# Altium integrated library WE-LF_rev15a.intlib: 54 symbols
Pins are listed as number, name and electrical type; pins without a type are passive.

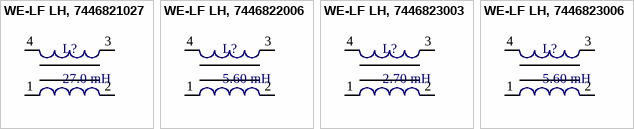
[diagram p0: symbols WE-LF LH, 7446821027 to WE-LF LH, 7446823006]

## WE-LF LH, 7446821027
designator L?, comment 27.0 mH
THT Common Mode Power Line Choke WE-LF, L=27.0 mH; partNo: 7446821027; Manufacturer: Würth Elektronik eiSos GmbH; Inductance: 27.0 mH; ComponentLink1Description: Manufacturer; ComponentLink1URL: http://www.we-online.de; Created by: Christin Zierenner; Created Date: March 2010; ComponentLink2Description: Datasheet; ComponentLink2URL: http://www.we-online.de/katalog/media/pdf/7446821027.pdf
footprint WE-LF LH (THT Inductor, 4-Leads, Body 28,5x28,5mm)
pins: 1, 2, 3, 4

## WE-LF LH, 7446822006
designator L?, comment 5.60 mH
THT Common Mode Power Line Choke WE-LF, L=5.60 mH; partNo: 7446822006; Manufacturer: Würth Elektronik eiSos GmbH; Inductance: 5.60 mH; ComponentLink1Description: Manufacturer; ComponentLink1URL: http://www.we-online.de; Created by: Christin Zierenner; Created Date: March 2010; ComponentLink2Description: Datasheet; ComponentLink2URL: http://www.we-online.de/katalog/media/pdf/7446822006.pdf
footprint WE-LF LH (THT Inductor, 4-Leads, Body 28,5x28,5mm)
pins: 1, 2, 3, 4

## WE-LF LH, 7446823003
designator L?, comment 2.70 mH
THT Common Mode Power Line Choke WE-LF, L=2.70 mH; partNo: 7446823003; Manufacturer: Würth Elektronik eiSos GmbH; Inductance: 2.70 mH; ComponentLink1Description: Manufacturer; ComponentLink1URL: http://www.we-online.de; Created by: Christin Zierenner; Created Date: March 2010; ComponentLink2Description: Datasheet; ComponentLink2URL: http://www.we-online.de/katalog/media/pdf/7446823003.pdf
footprint WE-LF LH (THT Inductor, 4-Leads, Body 28,5x28,5mm)
pins: 1, 2, 3, 4

## WE-LF LH, 7446823006
designator L?, comment 5.60 mH
THT Common Mode Power Line Choke WE-LF, L=5.60 mH; partNo: 7446823006; Manufacturer: Würth Elektronik eiSos GmbH; Inductance: 5.60 mH; ComponentLink1Description: Manufacturer; ComponentLink1URL: http://www.we-online.de; Created by: Christin Zierenner; Created Date: March 2010; ComponentLink2Description: Datasheet; ComponentLink2URL: http://www.we-online.de/katalog/media/pdf/7446823006.pdf
footprint WE-LF LH (THT Inductor, 4-Leads, Body 28,5x28,5mm)
pins: 1, 2, 3, 4


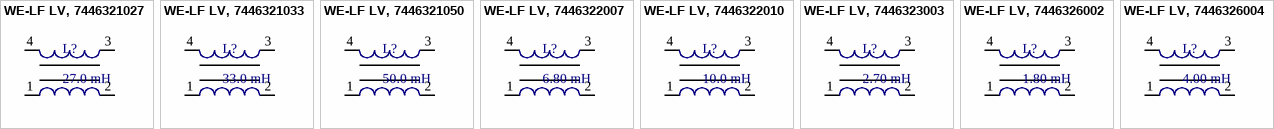
[diagram p1: symbols WE-LF LV, 7446321027 to WE-LF LV, 7446326004]

## WE-LF LV, 7446321027
designator L?, comment 27.0 mH
THT Common Mode Power Line Choke WE-LF, L=27.0 mH; partNo: 7446321027; Manufacturer: Würth Elektronik eiSos GmbH; Inductance: 27.0 mH; ComponentLink1Description: Manufacturer; ComponentLink1URL: http://www.we-online.de; Created by: Christin Zierenner; Created Date: March 2010; ComponentLink2Description: Datasheet; ComponentLink2URL: http://www.we-online.de/katalog/media/pdf/7446321027.pdf
footprint WE-LF LV (THT Inductor, 4-Leads, Body 26.5x18.5mm)
pins: 1, 2, 3, 4

## WE-LF LV, 7446321033
designator L?, comment 33.0 mH
THT Common Mode Power Line Choke WE-LF, L=33.0 mH; partNo: 7446321033; Manufacturer: Würth Elektronik eiSos GmbH; Inductance: 33.0 mH; ComponentLink1Description: Manufacturer; ComponentLink1URL: http://www.we-online.de; Created by: Christin Zierenner; Created Date: March 2010; ComponentLink2Description: Datasheet; ComponentLink2URL: http://www.we-online.de/katalog/media/pdf/7446321033.pdf
footprint WE-LF LV (THT Inductor, 4-Leads, Body 26.5x18.5mm)
pins: 1, 2, 3, 4

## WE-LF LV, 7446321050
designator L?, comment 50.0 mH
THT Common Mode Power Line Choke WE-LF, L=50.0 mH; partNo: 7446321050; Manufacturer: Würth Elektronik eiSos GmbH; Inductance: 50.0 mH; ComponentLink1Description: Manufacturer; ComponentLink1URL: http://www.we-online.de; Created by: Christin Zierenner; Created Date: March 2010; ComponentLink2Description: Datasheet; ComponentLink2URL: http://www.we-online.de/katalog/media/pdf/7446321050.pdf
footprint WE-LF LV (THT Inductor, 4-Leads, Body 26.5x18.5mm)
pins: 1, 2, 3, 4

## WE-LF LV, 7446322007
designator L?, comment 6.80 mH
THT Common Mode Power Line Choke WE-LF, L=6.80 mH; partNo: 7446322007; Manufacturer: Würth Elektronik eiSos GmbH; Inductance: 6.80 mH; ComponentLink1Description: Manufacturer; ComponentLink1URL: http://www.we-online.de; Created by: Christin Zierenner; Created Date: March 2010; ComponentLink2Description: Datasheet; ComponentLink2URL: http://www.we-online.de/katalog/media/pdf/7446322007.pdf
footprint WE-LF LV (THT Inductor, 4-Leads, Body 26.5x18.5mm)
pins: 1, 2, 3, 4

## WE-LF LV, 7446322010
designator L?, comment 10.0 mH
THT Common Mode Power Line Choke WE-LF, L=10.0 mH; partNo: 7446322010; Manufacturer: Würth Elektronik eiSos GmbH; Inductance: 10.0 mH; ComponentLink1Description: Manufacturer; ComponentLink1URL: http://www.we-online.de; Created by: Christin Zierenner; Created Date: March 2010; ComponentLink2Description: Datasheet; ComponentLink2URL: http://www.we-online.de/katalog/media/pdf/7446322010.pdf
footprint WE-LF LV (THT Inductor, 4-Leads, Body 26.5x18.5mm)
pins: 1, 2, 3, 4

## WE-LF LV, 7446323003
designator L?, comment 2.70 mH
THT Common Mode Power Line Choke WE-LF, L=2.70 mH; partNo: 7446323003; Manufacturer: Würth Elektronik eiSos GmbH; Inductance: 2.70 mH; ComponentLink1Description: Manufacturer; ComponentLink1URL: http://www.we-online.de; Created by: Christin Zierenner; Created Date: March 2010; ComponentLink2Description: Datasheet; ComponentLink2URL: http://www.we-online.de/katalog/media/pdf/7446323003.pdf
footprint WE-LF LV (THT Inductor, 4-Leads, Body 26.5x18.5mm)
pins: 1, 2, 3, 4

## WE-LF LV, 7446326002
designator L?, comment 1.80 mH
THT Common Mode Power Line Choke WE-LF, L=1.80 mH; partNo: 7446326002; Manufacturer: Würth Elektronik eiSos GmbH; Inductance: 1.80 mH; ComponentLink1Description: Manufacturer; ComponentLink1URL: http://www.we-online.de; Created by: Christin Zierenner; Created Date: March 2010; ComponentLink2Description: Datasheet; ComponentLink2URL: http://www.we-online.de/katalog/media/pdf/7446326002.pdf
footprint WE-LF LV (THT Inductor, 4-Leads, Body 26.5x18.5mm)
pins: 1, 2, 3, 4

## WE-LF LV, 7446326004
designator L?, comment 4.00 mH
THT Common Mode Power Line Choke WE-LF, L=4.00 mH; partNo: 7446326004; Manufacturer: Würth Elektronik eiSos GmbH; Inductance: 4.00 mH; ComponentLink1Description: Manufacturer; ComponentLink1URL: http://www.we-online.de; Created by: Christin Zierenner; Created Date: March 2010; ComponentLink2Description: Datasheet; ComponentLink2URL: http://www.we-online.de/katalog/media/pdf/7446326004.pdf
footprint WE-LF LV (THT Inductor, 4-Leads, Body 26.5x18.5mm)
pins: 1, 2, 3, 4


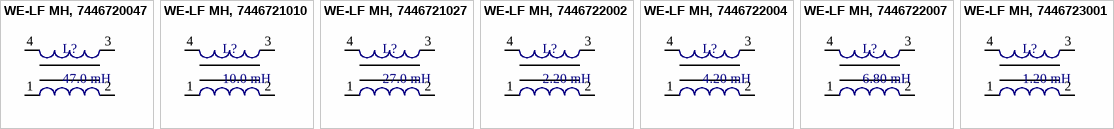
[diagram p2: symbols WE-LF MH, 7446720047 to WE-LF MH, 7446723001]

## WE-LF MH, 7446720047
designator L?, comment 47.0 mH
THT Common Mode Power Line Choke WE-LF, L=47.0 mH; partNo: 7446720047; Manufacturer: Würth Elektronik eiSos GmbH; Inductance: 47.0 mH; ComponentLink1Description: Manufacturer; ComponentLink1URL: http://www.we-online.de; Created by: Christin Zierenner; Created Date: March 2010; ComponentLink2Description: Datasheet; ComponentLink2URL: http://www.we-online.de/katalog/media/pdf/7446720047.pdf
footprint WE-LF MH (THT Inductor, 4-Leads, Body 23x23mm)
pins: 1, 2, 3, 4

## WE-LF MH, 7446721010
designator L?, comment 10.0 mH
THT Common Mode Power Line Choke WE-LF, L=10.0 mH; partNo: 7446721010; Manufacturer: Würth Elektronik eiSos GmbH; Inductance: 10.0 mH; ComponentLink1Description: Manufacturer; ComponentLink1URL: http://www.we-online.de; Created by: Christin Zierenner; Created Date: March 2010; ComponentLink2Description: Datasheet; ComponentLink2URL: http://www.we-online.de/katalog/media/pdf/7446721010.pdf
footprint WE-LF MH (THT Inductor, 4-Leads, Body 23x23mm)
pins: 1, 2, 3, 4

## WE-LF MH, 7446721027
designator L?, comment 27.0 mH
THT Common Mode Power Line Choke WE-LF, L=27.0 mH; partNo: 7446721027; Manufacturer: Würth Elektronik eiSos GmbH; Inductance: 27.0 mH; ComponentLink1Description: Manufacturer; ComponentLink1URL: http://www.we-online.de; Created by: Christin Zierenner; Created Date: March 2010; ComponentLink2Description: Datasheet; ComponentLink2URL: http://www.we-online.de/katalog/media/pdf/7446721027.pdf
footprint WE-LF MH (THT Inductor, 4-Leads, Body 23x23mm)
pins: 1, 2, 3, 4

## WE-LF MH, 7446722002
designator L?, comment 2.20 mH
THT Common Mode Power Line Choke WE-LF, L=2.20 mH; partNo: 7446722002; Manufacturer: Würth Elektronik eiSos GmbH; Inductance: 2.20 mH; ComponentLink1Description: Manufacturer; ComponentLink1URL: http://www.we-online.de; Created by: Christin Zierenner; Created Date: March 2010; ComponentLink2Description: Datasheet; ComponentLink2URL: http://www.we-online.de/katalog/media/pdf/7446722002.pdf
footprint WE-LF MH (THT Inductor, 4-Leads, Body 23x23mm)
pins: 1, 2, 3, 4

## WE-LF MH, 7446722004
designator L?, comment 4.20 mH
THT Common Mode Power Line Choke WE-LF, L=4.20 mH; partNo: 7446722004; Manufacturer: Würth Elektronik eiSos GmbH; Inductance: 4.20 mH; ComponentLink1Description: Manufacturer; ComponentLink1URL: http://www.we-online.de; Created by: Christin Zierenner; Created Date: March 2010; ComponentLink2Description: Datasheet; ComponentLink2URL: http://www.we-online.de/katalog/media/pdf/7446722004.pdf
footprint WE-LF MH (THT Inductor, 4-Leads, Body 23x23mm)
pins: 1, 2, 3, 4

## WE-LF MH, 7446722007
designator L?, comment 6.80 mH
THT Common Mode Power Line Choke WE-LF, L=6.80 mH; partNo: 7446722007; Manufacturer: Würth Elektronik eiSos GmbH; Inductance: 6.80 mH; ComponentLink1Description: Manufacturer; ComponentLink1URL: http://www.we-online.de; Created by: Christin Zierenner; Created Date: March 2010; ComponentLink2Description: Datasheet; ComponentLink2URL: http://www.we-online.de/katalog/media/pdf/7446722007.pdf
footprint WE-LF MH (THT Inductor, 4-Leads, Body 23x23mm)
pins: 1, 2, 3, 4

## WE-LF MH, 7446723001
designator L?, comment 1.20 mH
THT Common Mode Power Line Choke WE-LF, L=1.20 mH; partNo: 7446723001; Manufacturer: Würth Elektronik eiSos GmbH; Inductance: 1.20 mH; ComponentLink1Description: Manufacturer; ComponentLink1URL: http://www.we-online.de; Created by: Christin Zierenner; Created Date: March 2010; ComponentLink2Description: Datasheet; ComponentLink2URL: http://www.we-online.de/katalog/media/pdf/7446723001.pdf
footprint WE-LF MH (THT Inductor, 4-Leads, Body 23x23mm)
pins: 1, 2, 3, 4


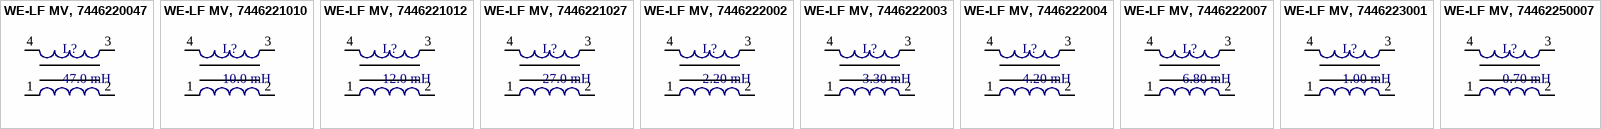
[diagram p3: symbols WE-LF MV, 7446220047 to WE-LF MV, 74462250007]

## WE-LF MV, 7446220047
designator L?, comment 47.0 mH
THT Common Mode Power Line Choke WE-LF, L=47.0 mH; partNo: 7446220047; Manufacturer: Würth Elektronik eiSos GmbH; Inductance: 47.0 mH; ComponentLink1Description: Manufacturer; ComponentLink1URL: http://www.we-online.de; Created by: Christin Zierenner; Created Date: March 2010; ComponentLink2Description: Datasheet; ComponentLink2URL: http://www.we-online.de/katalog/media/pdf/7446220047.pdf
footprint WE-LF MV (THT Inductor, 4-Leads, Body 23,5x16mm)
pins: 1, 2, 3, 4

## WE-LF MV, 7446221010
designator L?, comment 10.0 mH
THT Common Mode Power Line Choke WE-LF, L=10.0 mH; partNo: 7446221010; Manufacturer: Würth Elektronik eiSos GmbH; Inductance: 10.0 mH; ComponentLink1Description: Manufacturer; ComponentLink1URL: http://www.we-online.de; Created by: Christin Zierenner; Created Date: March 2010; ComponentLink2Description: Datasheet; ComponentLink2URL: http://www.we-online.de/katalog/media/pdf/7446221010.pdf
footprint WE-LF MV (THT Inductor, 4-Leads, Body 23,5x16mm)
pins: 1, 2, 3, 4

## WE-LF MV, 7446221012
designator L?, comment 12.0 mH
THT Common Mode Power Line Choke WE-LF, L=12.0 mH; partNo: 7446221012; Manufacturer: Würth Elektronik eiSos GmbH; Inductance: 12.0 mH; ComponentLink1Description: Manufacturer; ComponentLink1URL: http://www.we-online.de; Created by: Christin Zierenner; Created Date: March 2010; ComponentLink2Description: Datasheet; ComponentLink2URL: http://www.we-online.de/katalog/media/pdf/7446221012.pdf
footprint WE-LF MV (THT Inductor, 4-Leads, Body 23,5x16mm)
pins: 1, 2, 3, 4

## WE-LF MV, 7446221027
designator L?, comment 27.0 mH
THT Common Mode Power Line Choke WE-LF, L=27.0 mH; partNo: 7446221027; Manufacturer: Würth Elektronik eiSos GmbH; Inductance: 27.0 mH; ComponentLink1Description: Manufacturer; ComponentLink1URL: http://www.we-online.de; Created by: Christin Zierenner; Created Date: March 2010; ComponentLink2Description: Datasheet; ComponentLink2URL: http://www.we-online.de/katalog/media/pdf/7446221027.pdf
footprint WE-LF MV (THT Inductor, 4-Leads, Body 23,5x16mm)
pins: 1, 2, 3, 4

## WE-LF MV, 7446222002
designator L?, comment 2.20 mH
THT Common Mode Power Line Choke WE-LF, L=2.20 mH; partNo: 7446222002; Manufacturer: Würth Elektronik eiSos GmbH; Inductance: 2.20 mH; ComponentLink1Description: Manufacturer; ComponentLink1URL: http://www.we-online.de; Created by: Christin Zierenner; Created Date: March 2010; ComponentLink2Description: Datasheet; ComponentLink2URL: http://www.we-online.de/katalog/media/pdf/7446222002.pdf
footprint WE-LF MV (THT Inductor, 4-Leads, Body 23,5x16mm)
pins: 1, 2, 3, 4

## WE-LF MV, 7446222003
designator L?, comment 3.30 mH
THT Common Mode Power Line Choke WE-LF, L=3.30 mH; partNo: 7446222003; Manufacturer: Würth Elektronik eiSos GmbH; Inductance: 3.30 mH; ComponentLink1Description: Manufacturer; ComponentLink1URL: http://www.we-online.de; Created by: Christin Zierenner; Created Date: March 2010; ComponentLink2Description: Datasheet; ComponentLink2URL: http://www.we-online.de/katalog/media/pdf/7446222003.pdf
footprint WE-LF MV (THT Inductor, 4-Leads, Body 23,5x16mm)
pins: 1, 2, 3, 4

## WE-LF MV, 7446222004
designator L?, comment 4.20 mH
THT Common Mode Power Line Choke WE-LF, L=4.20 mH; partNo: 7446222004; Manufacturer: Würth Elektronik eiSos GmbH; Inductance: 4.20 mH; ComponentLink1Description: Manufacturer; ComponentLink1URL: http://www.we-online.de; Created by: Christin Zierenner; Created Date: March 2010; ComponentLink2Description: Datasheet; ComponentLink2URL: http://www.we-online.de/katalog/media/pdf/7446222004.pdf
footprint WE-LF MV (THT Inductor, 4-Leads, Body 23,5x16mm)
pins: 1, 2, 3, 4

## WE-LF MV, 7446222007
designator L?, comment 6.80 mH
THT Common Mode Power Line Choke WE-LF, L=6.80 mH; partNo: 7446222007; Manufacturer: Würth Elektronik eiSos GmbH; Inductance: 6.80 mH; ComponentLink1Description: Manufacturer; ComponentLink1URL: http://www.we-online.de; Created by: Christin Zierenner; Created Date: March 2010; ComponentLink2Description: Datasheet; ComponentLink2URL: http://www.we-online.de/katalog/media/pdf/7446222007.pdf
footprint WE-LF MV (THT Inductor, 4-Leads, Body 23,5x16mm)
pins: 1, 2, 3, 4

## WE-LF MV, 7446223001
designator L?, comment 1.00 mH
THT Common Mode Power Line Choke WE-LF, L=1.00 mH; partNo: 7446223001; Manufacturer: Würth Elektronik eiSos GmbH; Inductance: 1.00 mH; ComponentLink1Description: Manufacturer; ComponentLink1URL: http://www.we-online.de; Created by: Christin Zierenner; Created Date: March 2010; ComponentLink2Description: Datasheet; ComponentLink2URL: http://www.we-online.de/katalog/media/pdf/7446223001.pdf
footprint WE-LF MV (THT Inductor, 4-Leads, Body 23,5x16mm)
pins: 1, 2, 3, 4

## WE-LF MV, 74462250007
designator L?, comment 0.70 mH
THT Common Mode Power Line Choke WE-LF, L=0.70 mH; partNo: 74462250007; Manufacturer: Würth Elektronik eiSos GmbH; Inductance: 0.70 mH; ComponentLink1Description: Manufacturer; ComponentLink1URL: http://www.we-online.de; Created by: Christin Zierenner; Created Date: March 2010; ComponentLink2Description: Datasheet; ComponentLink2URL: http://www.we-online.de/katalog/media/pdf/74462250007.pdf
footprint WE-LF MV (THT Inductor, 4-Leads, Body 23,5x16mm)
pins: 1, 2, 3, 4


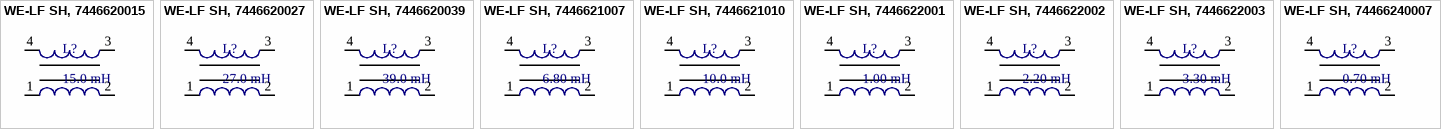
[diagram p4: symbols WE-LF SH, 7446620015 to WE-LF SH, 74466240007]

## WE-LF SH, 7446620015
designator L?, comment 15.0 mH
THT Common Mode Power Line Choke WE-LF, L=15.0 mH; partNo: 7446620015; Manufacturer: Würth Elektronik eiSos GmbH; Inductance: 15.0 mH; ComponentLink1Description: Manufacturer; ComponentLink1URL: http://www.we-online.de; Created by: Christin Zierenner; Created Date: March 2010; ComponentLink2Description: Datasheet; ComponentLink2URL: http://www.we-online.de/katalog/media/pdf/7446620015.pdf
footprint WE-LF SH (THT Inductor, 4-Leads, Body 18x18mm)
pins: 1, 2, 3, 4

## WE-LF SH, 7446620027
designator L?, comment 27.0 mH
THT Common Mode Power Line Choke WE-LF, L=27.0 mH; partNo: 7446620027; Manufacturer: Würth Elektronik eiSos GmbH; Inductance: 27.0 mH; ComponentLink1Description: Manufacturer; ComponentLink1URL: http://www.we-online.de; Created by: Christin Zierenner; Created Date: March 2010; ComponentLink2Description: Datasheet; ComponentLink2URL: http://www.we-online.de/katalog/media/pdf/7446620027.pdf
footprint WE-LF SH (THT Inductor, 4-Leads, Body 18x18mm)
pins: 1, 2, 3, 4

## WE-LF SH, 7446620039
designator L?, comment 39.0 mH
THT Common Mode Power Line Choke WE-LF, L=39.0 mH; partNo: 7446620039; Manufacturer: Würth Elektronik eiSos GmbH; Inductance: 39.0 mH; ComponentLink1Description: Manufacturer; ComponentLink1URL: http://www.we-online.de; Created by: Christin Zierenner; Created Date: March 2010; ComponentLink2Description: Datasheet; ComponentLink2URL: http://www.we-online.de/katalog/media/pdf/7446620039.pdf
footprint WE-LF SH (THT Inductor, 4-Leads, Body 18x18mm)
pins: 1, 2, 3, 4

## WE-LF SH, 7446621007
designator L?, comment 6.80 mH
THT Common Mode Power Line Choke WE-LF, L=6.80 mH; partNo: 7446621007; Manufacturer: Würth Elektronik eiSos GmbH; Inductance: 6.80 mH; ComponentLink1Description: Manufacturer; ComponentLink1URL: http://www.we-online.de; Created by: Christin Zierenner; Created Date: March 2010; ComponentLink2Description: Datasheet; ComponentLink2URL: http://www.we-online.de/katalog/media/pdf/7446621007.pdf
footprint WE-LF SH (THT Inductor, 4-Leads, Body 18x18mm)
pins: 1, 2, 3, 4

## WE-LF SH, 7446621010
designator L?, comment 10.0 mH
THT Common Mode Power Line Choke WE-LF, L=10.0 mH; partNo: 7446621010; Manufacturer: Würth Elektronik eiSos GmbH; Inductance: 10.0 mH; ComponentLink1Description: Manufacturer; ComponentLink1URL: http://www.we-online.de; Created by: Christin Zierenner; Created Date: March 2010; ComponentLink2Description: Datasheet; ComponentLink2URL: http://www.we-online.de/katalog/media/pdf/7446621010.pdf
footprint WE-LF SH (THT Inductor, 4-Leads, Body 18x18mm)
pins: 1, 2, 3, 4

## WE-LF SH, 7446622001
designator L?, comment 1.00 mH
THT Common Mode Power Line Choke WE-LF, L=1.00 mH; partNo: 7446622001; Manufacturer: Würth Elektronik eiSos GmbH; Inductance: 1.00 mH; ComponentLink1Description: Manufacturer; ComponentLink1URL: http://www.we-online.de; Created by: Christin Zierenner; Created Date: March 2010; ComponentLink2Description: Datasheet; ComponentLink2URL: http://www.we-online.de/katalog/media/pdf/7446622001.pdf
footprint WE-LF SH (THT Inductor, 4-Leads, Body 18x18mm)
pins: 1, 2, 3, 4

## WE-LF SH, 7446622002
designator L?, comment 2.20 mH
THT Common Mode Power Line Choke WE-LF, L=2.20 mH; partNo: 7446622002; Manufacturer: Würth Elektronik eiSos GmbH; Inductance: 2.20 mH; ComponentLink1Description: Manufacturer; ComponentLink1URL: http://www.we-online.de; Created by: Christin Zierenner; Created Date: March 2010; ComponentLink2Description: Datasheet; ComponentLink2URL: http://www.we-online.de/katalog/media/pdf/7446622002.pdf
footprint WE-LF SH (THT Inductor, 4-Leads, Body 18x18mm)
pins: 1, 2, 3, 4

## WE-LF SH, 7446622003
designator L?, comment 3.30 mH
THT Common Mode Power Line Choke WE-LF, L=3.30 mH; partNo: 7446622003; Manufacturer: Würth Elektronik eiSos GmbH; Inductance: 3.30 mH; ComponentLink1Description: Manufacturer; ComponentLink1URL: http://www.we-online.de; Created by: Christin Zierenner; Created Date: March 2010; ComponentLink2Description: Datasheet; ComponentLink2URL: http://www.we-online.de/katalog/media/pdf/7446622003.pdf
footprint WE-LF SH (THT Inductor, 4-Leads, Body 18x18mm)
pins: 1, 2, 3, 4

## WE-LF SH, 74466240007
designator L?, comment 0.70 mH
THT Common Mode Power Line Choke WE-LF, L=0.70 mH; partNo: 74466240007; Manufacturer: Würth Elektronik eiSos GmbH; Inductance: 0.70 mH; ComponentLink1Description: Manufacturer; ComponentLink1URL: http://www.we-online.de; Created by: Christin Zierenner; Created Date: March 2010; ComponentLink2Description: Datasheet; ComponentLink2URL: http://www.we-online.de/katalog/media/pdf/74466240007.pdf
footprint WE-LF SH (THT Inductor, 4-Leads, Body 18x18mm)
pins: 1, 2, 3, 4


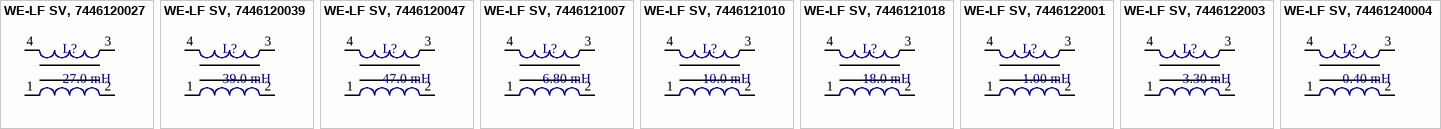
[diagram p5: symbols WE-LF SV, 7446120027 to WE-LF SV, 74461240004]

## WE-LF SV, 7446120027
designator L?, comment 27.0 mH
THT Common Mode Power Line Choke WE-LF, L=27.0 mH; partNo: 7446120027; Manufacturer: Würth Elektronik eiSos GmbH; Inductance: 27.0 mH; ComponentLink1Description: Manufacturer; ComponentLink1URL: http://www.we-online.de; Created by: Christin Zierenner; Created Date: March 2010; ComponentLink2Description: Datasheet; ComponentLink2URL: http://www.we-online.de/katalog/media/pdf/7446120027.pdf
footprint WE-LF SV (THT Inductor, 4-Leads, Body 18,5x13,5mm)
pins: 1, 2, 3, 4

## WE-LF SV, 7446120039
designator L?, comment 39.0 mH
THT Common Mode Power Line Choke WE-LF, L=39.0 mH; partNo: 7446120039; Manufacturer: Würth Elektronik eiSos GmbH; Inductance: 39.0 mH; ComponentLink1Description: Manufacturer; ComponentLink1URL: http://www.we-online.de; Created by: Christin Zierenner; Created Date: March 2010; ComponentLink2Description: Datasheet; ComponentLink2URL: http://www.we-online.de/katalog/media/pdf/7446120039.pdf
footprint WE-LF SV (THT Inductor, 4-Leads, Body 18,5x13,5mm)
pins: 1, 2, 3, 4

## WE-LF SV, 7446120047
designator L?, comment 47.0 mH
THT Common Mode Power Line Choke WE-LF, L=47.0 mH; partNo: 7446120047; Manufacturer: Würth Elektronik eiSos GmbH; Inductance: 47.0 mH; ComponentLink1Description: Manufacturer; ComponentLink1URL: http://www.we-online.de; Created by: Christin Zierenner; Created Date: March 2010; ComponentLink2Description: Datasheet; ComponentLink2URL: http://www.we-online.de/katalog/media/pdf/7446120047.pdf
footprint WE-LF SV (THT Inductor, 4-Leads, Body 18,5x13,5mm)
pins: 1, 2, 3, 4

## WE-LF SV, 7446121007
designator L?, comment 6.80 mH
THT Common Mode Power Line Choke WE-LF, L=6.80 mH; partNo: 7446121007; Manufacturer: Würth Elektronik eiSos GmbH; Inductance: 6.80 mH; ComponentLink1Description: Manufacturer; ComponentLink1URL: http://www.we-online.de; Created by: Christin Zierenner; Created Date: March 2010; ComponentLink2Description: Datasheet; ComponentLink2URL: http://www.we-online.de/katalog/media/pdf/7446121007.pdf
footprint WE-LF SV (THT Inductor, 4-Leads, Body 18,5x13,5mm)
pins: 1, 2, 3, 4

## WE-LF SV, 7446121010
designator L?, comment 10.0 mH
THT Common Mode Power Line Choke WE-LF, L=10.0 mH; partNo: 7446121010; Manufacturer: Würth Elektronik eiSos GmbH; Inductance: 10.0 mH; ComponentLink1Description: Manufacturer; ComponentLink1URL: http://www.we-online.de; Created by: Christin Zierenner; Created Date: March 2010; ComponentLink2Description: Datasheet; ComponentLink2URL: http://www.we-online.de/katalog/media/pdf/7446121010.pdf
footprint WE-LF SV (THT Inductor, 4-Leads, Body 18,5x13,5mm)
pins: 1, 2, 3, 4

## WE-LF SV, 7446121018
designator L?, comment 18.0 mH
THT Common Mode Power Line Choke WE-LF, L=18.0 mH; partNo: 7446121018; Manufacturer: Würth Elektronik eiSos GmbH; Inductance: 18.0 mH; ComponentLink1Description: Manufacturer; ComponentLink1URL: http://www.we-online.de; Created by: Christin Zierenner; Created Date: March 2010; ComponentLink2Description: Datasheet; ComponentLink2URL: http://www.we-online.de/katalog/media/pdf/7446121018.pdf
footprint WE-LF SV (THT Inductor, 4-Leads, Body 18,5x13,5mm)
pins: 1, 2, 3, 4

## WE-LF SV, 7446122001
designator L?, comment 1.00 mH
THT Common Mode Power Line Choke WE-LF, L=1.00 mH; partNo: 7446122001; Manufacturer: Würth Elektronik eiSos GmbH; Inductance: 1.00 mH; ComponentLink1Description: Manufacturer; ComponentLink1URL: http://www.we-online.de; Created by: Christin Zierenner; Created Date: March 2010; ComponentLink2Description: Datasheet; ComponentLink2URL: http://www.we-online.de/katalog/media/pdf/7446122001.pdf
footprint WE-LF SV (THT Inductor, 4-Leads, Body 18,5x13,5mm)
pins: 1, 2, 3, 4

## WE-LF SV, 7446122003
designator L?, comment 3.30 mH
THT Common Mode Power Line Choke WE-LF, L=3.30 mH; partNo: 7446122003; Manufacturer: Würth Elektronik eiSos GmbH; Inductance: 3.30 mH; ComponentLink1Description: Manufacturer; ComponentLink1URL: http://www.we-online.de; Created by: Christin Zierenner; Created Date: March 2010; ComponentLink2Description: Datasheet; ComponentLink2URL: http://www.we-online.de/katalog/media/pdf/7446122003.pdf
footprint WE-LF SV (THT Inductor, 4-Leads, Body 18,5x13,5mm)
pins: 1, 2, 3, 4

## WE-LF SV, 74461240004
designator L?, comment 0.40 mH
THT Common Mode Power Line Choke WE-LF, L=0.40 mH; partNo: 74461240004; Manufacturer: Würth Elektronik eiSos GmbH; Inductance: 0.40 mH; ComponentLink1Description: Manufacturer; ComponentLink1URL: http://www.we-online.de; Created by: Christin Zierenner; Created Date: March 2010; ComponentLink2Description: Datasheet; ComponentLink2URL: http://www.we-online.de/katalog/media/pdf/74461240004.pdf
footprint WE-LF SV (THT Inductor, 4-Leads, Body 18,5x13,5mm)
pins: 1, 2, 3, 4


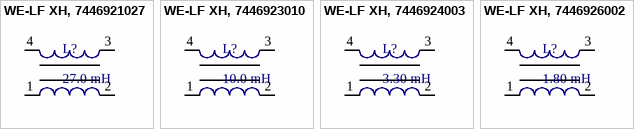
[diagram p6: symbols WE-LF XH, 7446921027 to WE-LF XH, 7446926002]

## WE-LF XH, 7446921027
designator L?, comment 27.0 mH
THT Common Mode Power Line Choke WE-LF, L=27.0 mH; partNo: 7446921027; Manufacturer: Würth Elektronik eiSos GmbH; Inductance: 27.0 mH; ComponentLink1Description: Manufacturer; ComponentLink1URL: http://www.we-online.de; Created by: Christin Zierenner; Created Date: March 2010; ComponentLink2Description: Datasheet; ComponentLink2URL: http://www.we-online.de/katalog/media/pdf/7446921027.pdf
footprint WE-LF XH (THT Inductor, 4-Leads, Body 33,5x33,5mm)
pins: 1, 2, 3, 4

## WE-LF XH, 7446923010
designator L?, comment 10.0 mH
THT Common Mode Power Line Choke WE-LF, L=10.0 mH; partNo: 7446923010; Manufacturer: Würth Elektronik eiSos GmbH; Inductance: 10.0 mH; ComponentLink1Description: Manufacturer; ComponentLink1URL: http://www.we-online.de; Created by: Christin Zierenner; Created Date: March 2010; ComponentLink2Description: Datasheet; ComponentLink2URL: http://www.we-online.de/katalog/media/pdf/7446923010.pdf
footprint WE-LF XH (THT Inductor, 4-Leads, Body 33,5x33,5mm)
pins: 1, 2, 3, 4

## WE-LF XH, 7446924003
designator L?, comment 3.30 mH
THT Common Mode Power Line Choke WE-LF, L=3.30 mH; partNo: 7446924003; Manufacturer: Würth Elektronik eiSos GmbH; Inductance: 3.30 mH; ComponentLink1Description: Manufacturer; ComponentLink1URL: http://www.we-online.de; Created by: Christin Zierenner; Created Date: March 2010; ComponentLink2Description: Datasheet; ComponentLink2URL: http://www.we-online.de/katalog/media/pdf/7446924003.pdf
footprint WE-LF XH (THT Inductor, 4-Leads, Body 33,5x33,5mm)
pins: 1, 2, 3, 4

## WE-LF XH, 7446926002
designator L?, comment 1.80 mH
THT Common Mode Power Line Choke WE-LF, L=1.80 mH; partNo: 7446926002; Manufacturer: Würth Elektronik eiSos GmbH; Inductance: 1.80 mH; ComponentLink1Description: Manufacturer; ComponentLink1URL: http://www.we-online.de; Created by: Christin Zierenner; Created Date: March 2010; ComponentLink2Description: Datasheet; ComponentLink2URL: http://www.we-online.de/katalog/media/pdf/7446926002.pdf
footprint WE-LF XH (THT Inductor, 4-Leads, Body 33,5x33,5mm)
pins: 1, 2, 3, 4


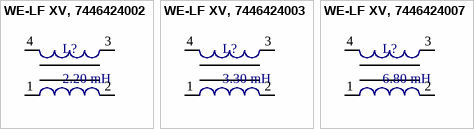
[diagram p7: symbols WE-LF XV, 7446424002 to WE-LF XV, 7446424007]

## WE-LF XV, 7446424002
designator L?, comment 2.20 mH
THT Common Mode Power Line Choke WE-LF, L=2.20 mH; partNo: 7446424002; Manufacturer: Würth Elektronik eiSos GmbH; Inductance: 2.20 mH; ComponentLink1Description: Manufacturer; ComponentLink1URL: http://www.we-online.de; Created by: Christin Zierenner; Created Date: March 2010; ComponentLink2Description: Datasheet; ComponentLink2URL: http://www.we-online.de/katalog/media/pdf/7446424002.pdf
footprint WE-LF XV (THT Inductor, 4-Leads, Body 32,5x21,5mm)
pins: 1, 2, 3, 4

## WE-LF XV, 7446424003
designator L?, comment 3.30 mH
THT Common Mode Power Line Choke WE-LF, L=3.30 mH; partNo: 7446424003; Manufacturer: Würth Elektronik eiSos GmbH; Inductance: 3.30 mH; ComponentLink1Description: Manufacturer; ComponentLink1URL: http://www.we-online.de; Created by: Christin Zierenner; Created Date: March 2010; ComponentLink2Description: Datasheet; ComponentLink2URL: http://www.we-online.de/katalog/media/pdf/7446424003.pdf
footprint WE-LF XV (THT Inductor, 4-Leads, Body 32,5x21,5mm)
pins: 1, 2, 3, 4

## WE-LF XV, 7446424007
designator L?, comment 6.80 mH
THT Common Mode Power Line Choke WE-LF, L=6.80 mH; partNo: 7446424007; Manufacturer: Würth Elektronik eiSos GmbH; Inductance: 6.80 mH; ComponentLink1Description: Manufacturer; ComponentLink1URL: http://www.we-online.de; Created by: Christin Zierenner; Created Date: March 2010; ComponentLink2Description: Datasheet; ComponentLink2URL: http://www.we-online.de/katalog/media/pdf/7446424007.pdf
footprint WE-LF XV (THT Inductor, 4-Leads, Body 32,5x21,5mm)
pins: 1, 2, 3, 4